# Altium schematic symbol library SCH - DIODES - DIODE ZENER AC.SCHLIB: 1 symbol
Pins are listed as number, name and electrical type; pins without a type are passive.

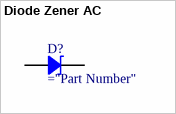
[diagram p0: symbol Diode Zener AC]

## Diode Zener AC
designator D?
Zener Diode
pins: A, C